# Altium schematic symbol library C0805C102K5RAC.SchLib: 1 symbol
Pins are listed as number, name and electrical type; pins without a type are passive.

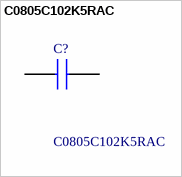
[diagram p0: symbol C0805C102K5RAC]

## C0805C102K5RAC
designator C?
Multilayer Ceramic Capacitors MLCC - SMD/SMT 50V 1000pF X7R 0805 10%; Manufacturer_Name: KEMET; Geometry.Height: 0.88mm; Mouser Part Number: 80-C0805C102K5RAC; Mouser Price/Stock: https://www.mouser.co.uk/ProductDetail/KEMET/C0805C102K5RAC?qs=ycq5i98tC2kYQr%252B2L41ubQ%3D%3D; Manufacturer_Part_Number: C0805C102K5RAC; Datasheet Link: https://componentsearchengine.com/Datasheets/1/C0805C102K5RAC.pdf
footprint CAPC2012X88N
pins: 1, 2